# Altium footprint library SIM800L.PcbLib: 2 footprints
Each footprint in its own frame and in the unit in brackets; x right, y up, seen from the top. Pads: shape width x height; smd on the part's side, far side on the other; paste and mask are expansions set on the pad; w line width, h text height; cw(c..) or ccw(c..) is an arc to the next point about the centre after c.
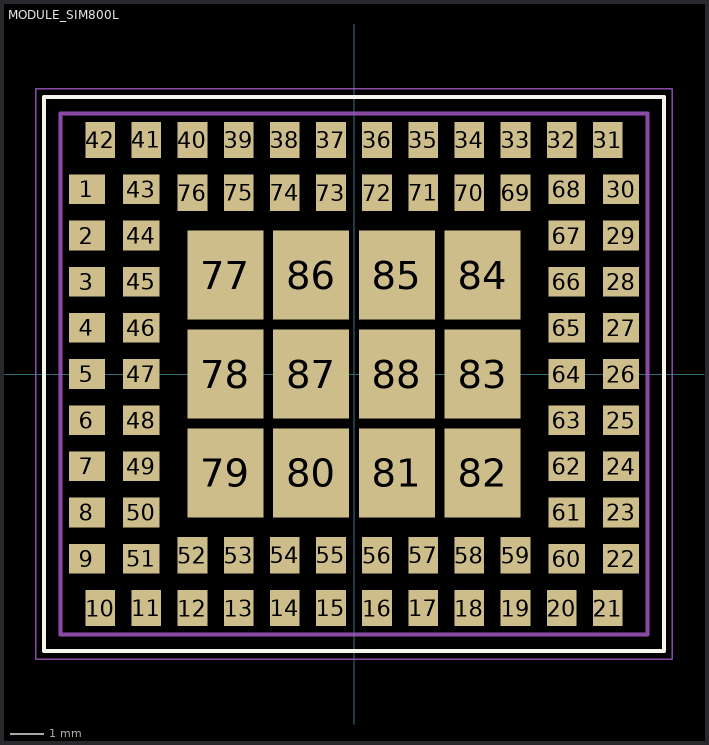
[diagram p0: the footprints below, top view; thin cyan lines are the x and y axes]

## MODULE_SIM800L [mm]
pads (88):
  rect 1.1x0.9 smd: 1(-8.1,5.6) 2(-8.1,4.2) 3(-8.1,2.8) 4(-8.1,1.4) 5(-8.1,0) 6(-8.1,-1.4) 7(-8.1,-2.8) 8(-8.1,-4.2) 9(-8.1,-5.6) 22(8.1,-5.6) 23(8.1,-4.2) 24(8.1,-2.8) 25(8.1,-1.4) 26(8.1,0) 27(8.1,1.4) 28(8.1,2.8) 29(8.1,4.2) 30(8.1,5.6) 43(-6.45,5.6) 44(-6.45,4.2) 45(-6.45,2.8) 46(-6.45,1.4) 47(-6.45,0) 48(-6.45,-1.4) 49(-6.45,-2.8) 50(-6.45,-4.2) 51(-6.45,-5.6) 60(6.45,-5.6) 61(6.45,-4.2) 62(6.45,-2.8) 63(6.45,-1.4) 64(6.45,0) 65(6.45,1.4) 66(6.45,2.8) 67(6.45,4.2) 68(6.45,5.6)
  rect 0.9x1.1 smd: 10(-7.7,-7.1) 11(-6.3,-7.1) 12(-4.9,-7.1) 13(-3.5,-7.1) 14(-2.1,-7.1) 15(-0.7,-7.1) 16(0.7,-7.1) 17(2.1,-7.1) 18(3.5,-7.1) 19(4.9,-7.1) 20(6.3,-7.1) 21(7.7,-7.1) 31(7.7,7.1) 32(6.3,7.1) 33(4.9,7.1) 34(3.5,7.1) 35(2.1,7.1) 36(0.7,7.1) 37(-0.7,7.1) 38(-2.1,7.1) 39(-3.5,7.1) 40(-4.9,7.1) 41(-6.3,7.1) 42(-7.7,7.1) 52(-4.9,-5.5) 53(-3.5,-5.5) 54(-2.1,-5.5) 55(-0.7,-5.5) 56(0.7,-5.5) 57(2.1,-5.5) 58(3.5,-5.5) 59(4.9,-5.5) 69(4.9,5.5) 70(3.5,5.5) 71(2.1,5.5) 72(0.7,5.5) 73(-0.7,5.5) 74(-2.1,5.5) 75(-3.5,5.5) 76(-4.9,5.5)
  rect 2.3x2.7 smd: 77(-3.9,3) 78(-3.9,0) 79(-3.9,-3) 80(-1.3,-3) 81(1.3,-3) 82(3.9,-3) 83(3.9,0) 84(3.9,3) 85(1.3,3) 86(-1.3,3) 87(-1.3,0) 88(1.3,0)
Top Overlay:
  lines w0.127: -9.4,-8.4 -9.4,8.4 9.4,8.4 9.4,-8.4 -9.4,-8.4
Mechanical 13:
  lines w0.127: -9.4,-8.4 -9.4,8.4 9.4,8.4 9.4,-8.4 -9.4,-8.4 ; -8.9,-7.9 8.9,-7.9 8.9,7.9 -8.9,7.9 -8.9,-7.9
Mechanical 15:
  lines w0.05: -9.65,-8.65 9.65,-8.65 9.65,8.65 -9.65,8.65 -9.65,-8.65

## PCBComponent_1 [mm]